# Altium footprint library consubd.PcbLib: 91 footprints (part 6 of 6)
Each footprint in its own frame and in the unit in brackets; x right, y up, seen from the top. Pads: shape width x height; smd on the part's side, far side on the other; paste and mask are expansions set on the pad; w line width, h text height; cw(c..) or ccw(c..) is an arc to the next point about the centre after c.
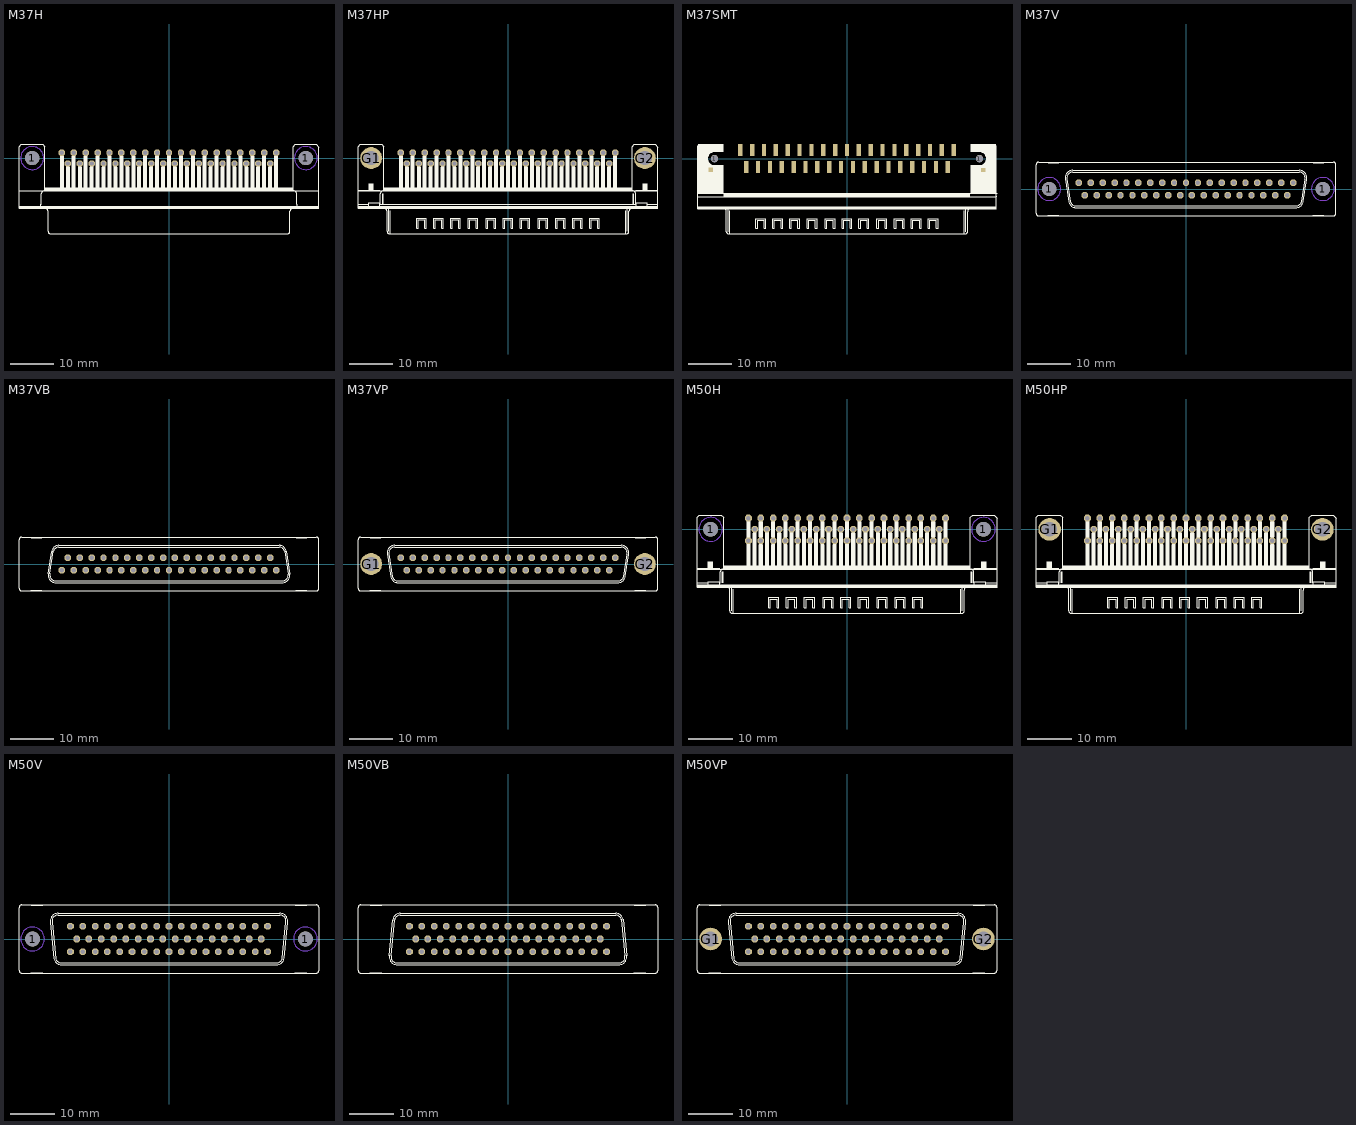
[diagram p5: the footprints below, top view; thin cyan lines are the x and y axes]

## M37H [mil]
pads (39):
  round 130 hole 130: 1(-1250,0) 1(1250,0)
  oct 58.09x58.09 hole 40: 1(-978,50) 2(-870,50) 3(-761,50) 4(-652,50) 5(-544,50) 6(-435,50) 7(-326,50) 8(-217,50) 9(-109,50) 10(0,50) 11(109,50) 12(217,50) 13(326,50) 14(435,50) 15(543,50) 16(652,50) 17(761,50) 18(869,50) 19(978,50) 20(-924,-50) 21(-815,-50) 22(-707,-50) 23(-598,-50) 24(-489,-50) 25(-380,-50) 26(-272,-50) 27(-163,-50) 28(-54,-50) 29(54,-50) 30(163,-50) 31(272,-50) 32(380,-50) 33(489,-50) 34(598,-50) 35(706,-50) 36(815,-50) 37(924,-50)
Top Layer keep-out:
  circle w0: c-1250,0 r105
  circle w0: c1250,0 r105
Bottom Layer keep-out:
  circle w0: c-1250,0 r105
  circle w0: c1250,0 r105
Top Overlay:
  drawing of 124 lines, arcs and shapes, not listed

## M37HP [mil]
pads (39):
  oct 58.09x58.09 hole 40: 1(-978,50) 2(-870,50) 3(-761,50) 4(-652,50) 5(-544,50) 6(-435,50) 7(-326,50) 8(-217,50) 9(-109,50) 10(0,50) 11(109,50) 12(217,50) 13(326,50) 14(435,50) 15(543,50) 16(652,50) 17(761,50) 18(869,50) 19(978,50) 20(-924,-50) 21(-815,-50) 22(-707,-50) 23(-598,-50) 24(-489,-50) 25(-380,-50) 26(-272,-50) 27(-163,-50) 28(-54,-50) 29(54,-50) 30(163,-50) 31(272,-50) 32(380,-50) 33(489,-50) 34(598,-50) 35(706,-50) 36(815,-50) 37(924,-50)
  round 200 hole 130: G1(-1250,0) G2(1250,0)
Top Overlay:
  drawing of 242 lines, arcs and shapes, not listed

## M37SMT [mm]
pads (41):
  round 1.7 hole 1.7: 1(-30.85,0) 1(30.85,0)
  rect 1x2.8 smd: 1(24.84,1.975) 2(22.08,1.975) 3(19.32,1.975) 4(16.56,1.975) 5(13.8,1.975) 6(11.04,1.975) 7(8.28,1.975) 8(5.52,1.975) 9(2.76,1.975) 10(0,1.975) 11(-2.76,1.975) 12(-5.52,1.975) 13(-8.28,1.975) 14(-11.04,1.975) 15(-13.8,1.975) 16(-16.56,1.975) 17(-19.32,1.975) 18(-22.08,1.975) 19(-24.84,1.975) 20(23.46,-1.975) 21(20.7,-1.975) 22(17.94,-1.975) 23(15.18,-1.975) 24(12.42,-1.975) 25(9.66,-1.975) 26(6.9,-1.975) 27(4.14,-1.975) 28(1.38,-1.975) 29(-1.38,-1.975) 30(-4.14,-1.975) 31(-6.9,-1.975) 32(-9.66,-1.975) 33(-12.42,-1.975) 34(-15.18,-1.975) 35(-17.94,-1.975) 36(-20.7,-1.975) 37(-23.46,-1.975)
  rect 1x1 smd: S@1(31.725,-2.65) S@2(-31.725,-2.625)
Top Overlay:
  drawing of 121 lines, arcs and shapes, not listed

## M37V [mil]
pads (39):
  round 130 hole 130: 1(-1250,0) 1(1250,0)
  oct 58.09x58.09 hole 40: 1(-978,56) 2(-870,56) 3(-761,56) 4(-652,56) 5(-544,56) 6(-435,56) 7(-326,56) 8(-217,56) 9(-109,56) 10(0,56) 11(109,56) 12(217,56) 13(326,56) 14(435,56) 15(543,56) 16(652,56) 17(761,56) 18(869,56) 19(978,56) 20(-924,-56) 21(-815,-56) 22(-707,-56) 23(-598,-56) 24(-489,-56) 25(-380,-56) 26(-272,-56) 27(-163,-56) 28(-54,-56) 29(54,-56) 30(163,-56) 31(272,-56) 32(380,-56) 33(489,-56) 34(598,-56) 35(706,-56) 36(815,-56) 37(924,-56)
Top Layer keep-out:
  circle w0: c-1250,0 r105
  circle w0: c1250,0 r105
Bottom Layer keep-out:
  circle w0: c-1250,0 r105
  circle w0: c1250,0 r105
Top Overlay:
  lines w6: -1102,92 -1071,-116 ; -1101.68,88.67 cw(c-1035,102) -1035,170 1035,170 cw(c1035,101.99) 1101.69,88.67 ; -1087,92 -1056,-116 ; -1086.97,91.61 cw(c-1035,102) -1035,155 1035,155 cw(c1035,101.99) 1086.79,90.7 ; -1072.4,-110.99 ccw(c-1005,-102) -1005,-170 1005,-170 ccw(c1004.99,-102) 1072.89,-105.7 ; -1056.3,-115.33 ccw(c-1005,-101.99) -1005,-155 1005,-155 ccw(c1004.99,-102) 1056.52,-114.37 ; 1056,-115 1087,91 ; 1072,-113 1102,91 ; -1260,-245 -1345,-245 cw(c-1345,-220) -1370,-220 -1370,220 cw(c-1345,220) -1345,245 -1260,245 ; -1260,-245 -1160,-245 ; -1260,-245 -1260,-240 -1160,-240 -1160,-245 ; -1260,245 -1160,245 ; -1260,245 -1260,240 -1160,240 -1160,245 ; -1160,-245 1160,-245 ; -1160,245 1160,245 ; 1160,-245 1260,-245 ; 1160,-245 1160,-240 1260,-240 1260,-245 ; 1160,245 1260,245 ; 1160,245 1160,240 1260,240 1260,245 ; 1260,-245 1345,-245 ccw(c1345,-220) 1370,-220 1370,220 ccw(c1345,220) 1345,245 1260,245
Mechanical 8:
  circle w16: c-924,-56 r10
  circle w16: c-815,-56 r10
  circle w16: c-706,-56 r10
  circle w16: c-978,56 r10
  circle w16: c-869,56 r10
  circle w16: c-761,56 r10
  circle w16: c924,-56 r10
  circle w16: c815,-56 r10
  circle w16: c706,-56 r10
  circle w16: c978,56 r10
  circle w16: c869,56 r10
  circle w16: c761,56 r10
  circle w16: c-598,-56 r10
  circle w16: c-489,-56 r10
  circle w16: c-652,56 r10
  circle w16: c-543,56 r10
  circle w16: c-435,56 r10
  circle w16: c-380,-56 r10
  circle w16: c-272,-56 r10
  circle w16: c-326,56 r10
  circle w16: c598,-56 r10
  circle w16: c652,56 r10
  circle w16: c543,56 r10
  circle w16: c489,-56 r10
  circle w16: c435,56 r10
  circle w16: c380,-56 r10
  circle w16: c326,56 r10
  circle w16: c272,-56 r10
  circle w16: c163,-56 r10
  circle w16: c217,56 r10
  circle w16: c109,56 r10
  circle w16: c54,-56 r10
  circle w16: c-54,-56 r10
  circle w16: c0,56 r10
  circle w16: c-217,56 r10
  circle w16: c-163,-56 r10
  circle w16: c-109,56 r10

## M37VB [mil]
pads (37):
  oct 58.09x58.09 hole 40: 1(978,-56) 2(870,-56) 3(761,-56) 4(652,-56) 5(544,-56) 6(435,-56) 7(326,-56) 8(217,-56) 9(109,-56) 10(0,-56) 11(-109,-56) 12(-217,-56) 13(-326,-56) 14(-435,-56) 15(-543,-56) 16(-652,-56) 17(-761,-56) 18(-869,-56) 19(-978,-56) 20(924,56) 21(815,56) 22(707,56) 23(598,56) 24(489,56) 25(380,56) 26(272,56) 27(163,56) 28(54,56) 29(-54,56) 30(-163,56) 31(-272,56) 32(-380,56) 33(-489,56) 34(-598,56) 35(-706,56) 36(-815,56) 37(-924,56)
Top Overlay:
  lines w6: -1102,-91 -1072,113 ; -1101.69,-88.67 ccw(c-1035,-101.99) -1035,-170 1035,-170 ccw(c1035,-102) 1101.68,-88.67 ; -1087,-91 -1056,115 ; -1086.79,-90.7 ccw(c-1035,-101.99) -1035,-155 1035,-155 ccw(c1035,-102) 1086.97,-91.61 ; -1072.89,105.7 cw(c-1004.99,102) -1005,170 1005,170 cw(c1005,102) 1072.4,110.99 ; -1056.52,114.37 cw(c-1004.99,102) -1005,155 1005,155 cw(c1005,101.99) 1056.3,115.33 ; 1056,116 1087,-92 ; 1071,116 1102,-92 ; -1260,-245 -1160,-245 ; -1260,-245 -1260,-240 -1160,-240 -1160,-245 ; -1260,-245 -1345,-245 cw(c-1345,-220) -1370,-220 -1370,220 cw(c-1345,220) -1345,245 -1260,245 ; -1260,245 -1260,240 -1160,240 -1160,245 ; -1260,245 -1160,245 ; -1160,-245 1160,-245 ; -1160,245 1160,245 ; 1160,-245 1260,-245 ; 1160,-245 1160,-240 1260,-240 1260,-245 ; 1160,245 1160,240 1260,240 1260,245 ; 1160,245 1260,245 ; 1260,-245 1345,-245 ccw(c1345,-220) 1370,-220 1370,220 ccw(c1345,220) 1345,245 1260,245
Mechanical 8:
  circle w16: c924,56 r10
  circle w16: c815,56 r10
  circle w16: c706,56 r10
  circle w16: c978,-56 r10
  circle w16: c869,-56 r10
  circle w16: c761,-56 r10
  circle w16: c-924,56 r10
  circle w16: c-815,56 r10
  circle w16: c-706,56 r10
  circle w16: c-978,-56 r10
  circle w16: c-869,-56 r10
  circle w16: c-761,-56 r10
  circle w16: c598,56 r10
  circle w16: c489,56 r10
  circle w16: c652,-56 r10
  circle w16: c543,-56 r10
  circle w16: c435,-56 r10
  circle w16: c380,56 r10
  circle w16: c272,56 r10
  circle w16: c326,-56 r10
  circle w16: c-598,56 r10
  circle w16: c-652,-56 r10
  circle w16: c-543,-56 r10
  circle w16: c-489,56 r10
  circle w16: c-435,-56 r10
  circle w16: c-380,56 r10
  circle w16: c-326,-56 r10
  circle w16: c-272,56 r10
  circle w16: c-163,56 r10
  circle w16: c-217,-56 r10
  circle w16: c-109,-56 r10
  circle w16: c-54,56 r10
  circle w16: c54,56 r10
  circle w16: c0,-56 r10
  circle w16: c217,-56 r10
  circle w16: c163,56 r10
  circle w16: c109,-56 r10

## M37VP [mil]
pads (39):
  oct 58.09x58.09 hole 40: 1(-978,56) 2(-870,56) 3(-761,56) 4(-652,56) 5(-544,56) 6(-435,56) 7(-326,56) 8(-217,56) 9(-109,56) 10(0,56) 11(109,56) 12(217,56) 13(326,56) 14(435,56) 15(543,56) 16(652,56) 17(761,56) 18(869,56) 19(978,56) 20(-924,-56) 21(-815,-56) 22(-707,-56) 23(-598,-56) 24(-489,-56) 25(-380,-56) 26(-272,-56) 27(-163,-56) 28(-54,-56) 29(54,-56) 30(163,-56) 31(272,-56) 32(380,-56) 33(489,-56) 34(598,-56) 35(706,-56) 36(815,-56) 37(924,-56)
  round 200 hole 130: G1(-1250,0) G2(1250,0)
Top Overlay:
  lines w6: -1102,92 -1071,-116 ; -1101.68,88.67 cw(c-1035,102) -1035,170 1035,170 cw(c1035,101.99) 1101.69,88.67 ; -1087,92 -1056,-116 ; -1086.97,91.61 cw(c-1035,102) -1035,155 1035,155 cw(c1035,101.99) 1086.79,90.7 ; -1072.4,-110.99 ccw(c-1005,-102) -1005,-170 1005,-170 ccw(c1004.99,-102) 1072.89,-105.7 ; -1056.3,-115.33 ccw(c-1005,-101.99) -1005,-155 1005,-155 ccw(c1004.99,-102) 1056.52,-114.37 ; 1056,-115 1087,91 ; 1072,-113 1102,91 ; -1260,-245 -1260,-240 -1160,-240 -1160,-245 ; -1260,-245 -1160,-245 ; -1260,-245 -1345,-245 cw(c-1345,-220) -1370,-220 -1370,220 cw(c-1345,220) -1345,245 -1260,245 ; -1260,245 -1260,240 -1160,240 -1160,245 ; -1260,245 -1160,245 ; -1160,-245 1160,-245 ; -1160,245 1160,245 ; 1160,-245 1160,-240 1260,-240 1260,-245 ; 1160,-245 1260,-245 ; 1160,245 1160,240 1260,240 1260,245 ; 1160,245 1260,245 ; 1260,-245 1345,-245 ccw(c1345,-220) 1370,-220 1370,220 ccw(c1345,220) 1345,245 1260,245
Mechanical 8:
  circle w16: c-109,56 r10
  circle w16: c-163,-56 r10
  circle w16: c-217,56 r10
  circle w16: c0,56 r10
  circle w16: c-54,-56 r10
  circle w16: c54,-56 r10
  circle w16: c109,56 r10
  circle w16: c217,56 r10
  circle w16: c163,-56 r10
  circle w16: c272,-56 r10
  circle w16: c326,56 r10
  circle w16: c380,-56 r10
  circle w16: c435,56 r10
  circle w16: c489,-56 r10
  circle w16: c543,56 r10
  circle w16: c652,56 r10
  circle w16: c598,-56 r10
  circle w16: c-326,56 r10
  circle w16: c-272,-56 r10
  circle w16: c-380,-56 r10
  circle w16: c-435,56 r10
  circle w16: c-543,56 r10
  circle w16: c-652,56 r10
  circle w16: c-489,-56 r10
  circle w16: c-598,-56 r10
  circle w16: c761,56 r10
  circle w16: c869,56 r10
  circle w16: c978,56 r10
  circle w16: c706,-56 r10
  circle w16: c815,-56 r10
  circle w16: c924,-56 r10
  circle w16: c-761,56 r10
  circle w16: c-869,56 r10
  circle w16: c-978,56 r10
  circle w16: c-706,-56 r10
  circle w16: c-815,-56 r10
  circle w16: c-924,-56 r10

## M50H [mil]
pads (52):
  round 130 hole 130: 1(-1203,0) 1(1203,0)
  oct 58.09x58.09 hole 40: 1(-869,100) 2(-761,100) 3(-652,100) 4(-543,100) 5(-435,100) 6(-326,100) 7(-217,100) 8(-109,100) 9(0,100) 10(109,100) 11(217,100) 12(326,100) 13(435,100) 14(543,100) 15(652,100) 16(761,100) 17(869,100) 18(-815,0) 19(-706,0) 20(-598,0) 21(-489,0) 22(-380,0) 23(-271,0) 24(-163,0) 25(-54,0) 26(55,0) 27(163,0) 28(272,0) 29(381,0) 30(489,0) 31(598,0) 32(707,0) 33(815,0) 34(-869,-100) 35(-761,-100) 36(-652,-100) 37(-543,-100) 38(-435,-100) 39(-326,-100) 40(-217,-100) 41(-109,-100) 42(0,-100) 43(109,-100) 44(217,-100) 45(326,-100) 46(435,-100) 47(543,-100) 48(652,-100) 49(761,-100) 50(869,-100)
Top Layer keep-out:
  circle w0: c1203,0 r105
  circle w0: c-1203,0 r105
Bottom Layer keep-out:
  circle w0: c1203,0 r105
  circle w0: c-1203,0 r105
Top Overlay:
  drawing of 249 lines, arcs and shapes, not listed

## M50HP [mil]
pads (52):
  oct 58.09x58.09 hole 40: 1(-869,100) 2(-761,100) 3(-652,100) 4(-543,100) 5(-435,100) 6(-326,100) 7(-217,100) 8(-109,100) 9(0,100) 10(109,100) 11(217,100) 12(326,100) 13(435,100) 14(543,100) 15(652,100) 16(761,100) 17(869,100) 18(-815,0) 19(-706,0) 20(-598,0) 21(-489,0) 22(-380,0) 23(-271,0) 24(-163,0) 25(-54,0) 26(55,0) 27(163,0) 28(272,0) 29(381,0) 30(489,0) 31(598,0) 32(707,0) 33(815,0) 34(-869,-100) 35(-761,-100) 36(-652,-100) 37(-543,-100) 38(-435,-100) 39(-326,-100) 40(-217,-100) 41(-109,-100) 42(0,-100) 43(109,-100) 44(217,-100) 45(326,-100) 46(435,-100) 47(543,-100) 48(652,-100) 49(761,-100) 50(869,-100)
  round 200 hole 130: G1(-1203,0) G2(1203,0)
Top Overlay:
  drawing of 249 lines, arcs and shapes, not listed

## M50V [mil]
pads (52):
  round 130 hole 130: 1(-1203,0) 1(1203,0)
  oct 58.09x58.09 hole 40: 1(-869,112) 2(-761,112) 3(-652,112) 4(-543,112) 5(-435,112) 6(-326,112) 7(-217,112) 8(-109,112) 9(0,112) 10(109,112) 11(217,112) 12(326,112) 13(435,112) 14(543,112) 15(652,112) 16(761,112) 17(869,112) 18(-815,0) 19(-706,0) 20(-598,0) 21(-489,0) 22(-380,0) 23(-272,0) 24(-163,0) 25(-54,0) 26(54,0) 27(163,0) 28(272,0) 29(380,0) 30(489,0) 31(598,0) 32(706,0) 33(815,0) 34(-869,-112) 35(-761,-112) 36(-652,-112) 37(-543,-112) 38(-435,-112) 39(-326,-112) 40(-217,-112) 41(-109,-112) 42(0,-112) 43(109,-112) 44(217,-112) 45(326,-112) 46(435,-112) 47(543,-112) 48(652,-112) 49(761,-112) 50(869,-112)
Top Layer keep-out:
  circle w0: c1203,0 r105
  circle w0: c-1203,0 r105
Bottom Layer keep-out:
  circle w0: c1203,0 r105
  circle w0: c-1203,0 r105
Top Overlay:
  lines w6: -1046,148 -1015,-172 ; -1045.68,144.67 cw(c-979,158) -979,226 979,226 cw(c979,157.99) 1045.69,144.67 ; -1031,148 -1000,-172 ; -1030.97,147.61 cw(c-979,158) -979,211 979,211 cw(c979,157.99) 1030.79,146.7 ; -1016.4,-166.99 ccw(c-949,-158) -949,-226 949,-226 ccw(c948.99,-158) 1016.89,-161.7 ; -1000.3,-171.33 ccw(c-949,-157.99) -949,-211 949,-211 ccw(c948.99,-158) 1000.52,-170.37 ; 1000,-171 1031,147 ; 1016,-169 1046,147 ; -1213,-301 -1213,-296 -1113,-296 -1113,-301 ; -1213,-301 -1113,-301 ; -1213,-301 -1298,-301 cw(c-1298,-276) -1323,-276 -1323,276 cw(c-1298,276) -1298,301 -1213,301 ; -1213,301 -1213,296 -1113,296 -1113,301 ; -1213,301 -1113,301 ; -1113,-301 1113,-301 ; -1113,301 1113,301 ; 1113,-301 1113,-296 1213,-296 1213,-301 ; 1113,-301 1213,-301 ; 1113,301 1113,296 1213,296 1213,301 ; 1113,301 1213,301 ; 1213,-301 1298,-301 ccw(c1298,-276) 1323,-276 1323,276 ccw(c1298,276) 1298,301 1213,301
Mechanical 8:
  circle w16: c-109,112 r10
  circle w16: c-163,0 r10
  circle w16: c-217,112 r10
  circle w16: c0,112 r10
  circle w16: c-54,0 r10
  circle w16: c54,0 r10
  circle w16: c109,112 r10
  circle w16: c217,112 r10
  circle w16: c163,0 r10
  circle w16: c272,0 r10
  circle w16: c326,112 r10
  circle w16: c380,0 r10
  circle w16: c435,112 r10
  circle w16: c489,0 r10
  circle w16: c543,112 r10
  circle w16: c652,112 r10
  circle w16: c598,0 r10
  circle w16: c-326,112 r10
  circle w16: c-272,0 r10
  circle w16: c-380,0 r10
  circle w16: c-435,112 r10
  circle w16: c-543,112 r10
  circle w16: c-652,112 r10
  circle w16: c-489,0 r10
  circle w16: c-598,0 r10
  circle w16: c761,112 r10
  circle w16: c869,112 r10
  circle w16: c706,0 r10
  circle w16: c815,0 r10
  circle w16: c-761,112 r10
  circle w16: c-869,112 r10
  circle w16: c-706,0 r10
  circle w16: c-815,0 r10
  circle w16: c-109,-112 r10
  circle w16: c-217,-112 r10
  circle w16: c0,-112 r10
  circle w16: c109,-112 r10
  circle w16: c217,-112 r10
  circle w16: c326,-112 r10
  circle w16: c435,-112 r10
  circle w16: c543,-112 r10
  circle w16: c652,-112 r10
  circle w16: c-326,-112 r10
  circle w16: c-435,-112 r10
  circle w16: c-543,-112 r10
  circle w16: c-652,-112 r10
  circle w16: c761,-112 r10
  circle w16: c869,-112 r10
  circle w16: c-761,-112 r10
  circle w16: c-869,-112 r10

## M50VB [mil]
pads (50):
  oct 58.09x58.09 hole 40: 1(869,-112) 2(761,-112) 3(652,-112) 4(543,-112) 5(435,-112) 6(326,-112) 7(217,-112) 8(109,-112) 9(0,-112) 10(-109,-112) 11(-217,-112) 12(-326,-112) 13(-435,-112) 14(-543,-112) 15(-652,-112) 16(-761,-112) 17(-869,-112) 18(815,0) 19(706,0) 20(598,0) 21(489,0) 22(380,0) 23(272,0) 24(163,0) 25(54,0) 26(-54,0) 27(-163,0) 28(-272,0) 29(-380,0) 30(-489,0) 31(-598,0) 32(-706,0) 33(-815,0) 34(869,112) 35(761,112) 36(652,112) 37(543,112) 38(435,112) 39(326,112) 40(217,112) 41(109,112) 42(0,112) 43(-109,112) 44(-217,112) 45(-326,112) 46(-435,112) 47(-543,112) 48(-652,112) 49(-761,112) 50(-869,112)
Top Overlay:
  lines w6: -1046,-147 -1016,169 ; -1045.69,-144.67 ccw(c-979,-157.99) -979,-226 979,-226 ccw(c979,-158) 1045.68,-144.67 ; -1031,-147 -1000,171 ; -1030.79,-146.7 ccw(c-979,-157.99) -979,-211 979,-211 ccw(c979,-158) 1030.97,-147.61 ; -1016.89,161.7 cw(c-948.99,158) -949,226 949,226 cw(c949,158) 1016.4,166.99 ; -1000.52,170.37 cw(c-948.99,158) -949,211 949,211 cw(c949,157.99) 1000.3,171.33 ; 1000,172 1031,-148 ; 1015,172 1046,-148 ; -1213,-301 -1298,-301 cw(c-1298,-276) -1323,-276 -1323,276 cw(c-1298,276) -1298,301 -1213,301 ; -1213,-301 -1213,-296 -1113,-296 -1113,-301 ; -1213,-301 -1113,-301 ; -1213,301 -1113,301 ; -1213,301 -1213,296 -1113,296 -1113,301 ; -1113,-301 1113,-301 ; -1113,301 1113,301 ; 1113,-301 1113,-296 1213,-296 1213,-301 ; 1113,-301 1213,-301 ; 1113,301 1213,301 ; 1113,301 1113,296 1213,296 1213,301 ; 1213,-301 1298,-301 ccw(c1298,-276) 1323,-276 1323,276 ccw(c1298,276) 1298,301 1213,301
Mechanical 8:
  circle w16: c109,-112 r10
  circle w16: c163,0 r10
  circle w16: c217,-112 r10
  circle w16: c0,-112 r10
  circle w16: c54,0 r10
  circle w16: c-54,0 r10
  circle w16: c-109,-112 r10
  circle w16: c-217,-112 r10
  circle w16: c-163,0 r10
  circle w16: c-272,0 r10
  circle w16: c-326,-112 r10
  circle w16: c-380,0 r10
  circle w16: c-435,-112 r10
  circle w16: c-489,0 r10
  circle w16: c-543,-112 r10
  circle w16: c-652,-112 r10
  circle w16: c-598,0 r10
  circle w16: c326,-112 r10
  circle w16: c272,0 r10
  circle w16: c380,0 r10
  circle w16: c435,-112 r10
  circle w16: c543,-112 r10
  circle w16: c652,-112 r10
  circle w16: c489,0 r10
  circle w16: c598,0 r10
  circle w16: c-761,-112 r10
  circle w16: c-869,-112 r10
  circle w16: c-706,0 r10
  circle w16: c-815,0 r10
  circle w16: c761,-112 r10
  circle w16: c869,-112 r10
  circle w16: c706,0 r10
  circle w16: c815,0 r10
  circle w16: c109,112 r10
  circle w16: c217,112 r10
  circle w16: c0,112 r10
  circle w16: c-109,112 r10
  circle w16: c-217,112 r10
  circle w16: c-326,112 r10
  circle w16: c-435,112 r10
  circle w16: c-543,112 r10
  circle w16: c-652,112 r10
  circle w16: c326,112 r10
  circle w16: c435,112 r10
  circle w16: c543,112 r10
  circle w16: c652,112 r10
  circle w16: c-761,112 r10
  circle w16: c-869,112 r10
  circle w16: c761,112 r10
  circle w16: c869,112 r10

## M50VP [mil]
pads (52):
  oct 58.09x58.09 hole 40: 1(-869,112) 2(-761,112) 3(-652,112) 4(-543,112) 5(-435,112) 6(-326,112) 7(-217,112) 8(-109,112) 9(0,112) 10(109,112) 11(217,112) 12(326,112) 13(435,112) 14(543,112) 15(652,112) 16(761,112) 17(869,112) 18(-815,0) 19(-706,0) 20(-598,0) 21(-489,0) 22(-380,0) 23(-272,0) 24(-163,0) 25(-54,0) 26(54,0) 27(163,0) 28(272,0) 29(380,0) 30(489,0) 31(598,0) 32(706,0) 33(815,0) 34(-869,-112) 35(-761,-112) 36(-652,-112) 37(-543,-112) 38(-435,-112) 39(-326,-112) 40(-217,-112) 41(-109,-112) 42(0,-112) 43(109,-112) 44(217,-112) 45(326,-112) 46(435,-112) 47(543,-112) 48(652,-112) 49(761,-112) 50(869,-112)
  round 200 hole 130: G1(-1203,0) G2(1203,0)
Top Overlay:
  lines w6: -1046,148 -1015,-172 ; -1045.68,144.67 cw(c-979,158) -979,226 979,226 cw(c979,157.99) 1045.69,144.67 ; -1031,148 -1000,-172 ; -1030.97,147.61 cw(c-979,158) -979,211 979,211 cw(c979,157.99) 1030.79,146.7 ; -1016.4,-166.99 ccw(c-949,-158) -949,-226 949,-226 ccw(c948.99,-158) 1016.89,-161.7 ; -1000.3,-171.33 ccw(c-949,-157.99) -949,-211 949,-211 ccw(c948.99,-158) 1000.52,-170.37 ; 1000,-171 1031,147 ; 1016,-169 1046,147 ; -1213,-301 -1298,-301 cw(c-1298,-276) -1323,-276 -1323,276 cw(c-1298,276) -1298,301 -1213,301 ; -1213,-301 -1113,-301 ; -1213,-301 -1213,-296 -1113,-296 -1113,-301 ; -1213,301 -1113,301 ; -1213,301 -1213,296 -1113,296 -1113,301 ; -1113,-301 1113,-301 ; -1113,301 1113,301 ; 1113,-301 1213,-301 ; 1113,-301 1113,-296 1213,-296 1213,-301 ; 1113,301 1213,301 ; 1113,301 1113,296 1213,296 1213,301 ; 1213,-301 1298,-301 ccw(c1298,-276) 1323,-276 1323,276 ccw(c1298,276) 1298,301 1213,301
Mechanical 8:
  circle w16: c-869,-112 r10
  circle w16: c-761,-112 r10
  circle w16: c869,-112 r10
  circle w16: c761,-112 r10
  circle w16: c-652,-112 r10
  circle w16: c-543,-112 r10
  circle w16: c-435,-112 r10
  circle w16: c-326,-112 r10
  circle w16: c652,-112 r10
  circle w16: c543,-112 r10
  circle w16: c435,-112 r10
  circle w16: c326,-112 r10
  circle w16: c217,-112 r10
  circle w16: c109,-112 r10
  circle w16: c0,-112 r10
  circle w16: c-217,-112 r10
  circle w16: c-109,-112 r10
  circle w16: c-815,0 r10
  circle w16: c-706,0 r10
  circle w16: c-869,112 r10
  circle w16: c-761,112 r10
  circle w16: c815,0 r10
  circle w16: c706,0 r10
  circle w16: c869,112 r10
  circle w16: c761,112 r10
  circle w16: c-598,0 r10
  circle w16: c-489,0 r10
  circle w16: c-652,112 r10
  circle w16: c-543,112 r10
  circle w16: c-435,112 r10
  circle w16: c-380,0 r10
  circle w16: c-272,0 r10
  circle w16: c-326,112 r10
  circle w16: c598,0 r10
  circle w16: c652,112 r10
  circle w16: c543,112 r10
  circle w16: c489,0 r10
  circle w16: c435,112 r10
  circle w16: c380,0 r10
  circle w16: c326,112 r10
  circle w16: c272,0 r10
  circle w16: c163,0 r10
  circle w16: c217,112 r10
  circle w16: c109,112 r10
  circle w16: c54,0 r10
  circle w16: c-54,0 r10
  circle w16: c0,112 r10
  circle w16: c-217,112 r10
  circle w16: c-163,0 r10
  circle w16: c-109,112 r10